# Altium footprint library PcbLib1.PcbLib: 10 footprints
Each footprint in its own frame and in the unit in brackets; x right, y up, seen from the top. Pads: shape width x height; smd on the part's side, far side on the other; paste and mask are expansions set on the pad; w line width, h text height; cw(c..) or ccw(c..) is an arc to the next point about the centre after c.
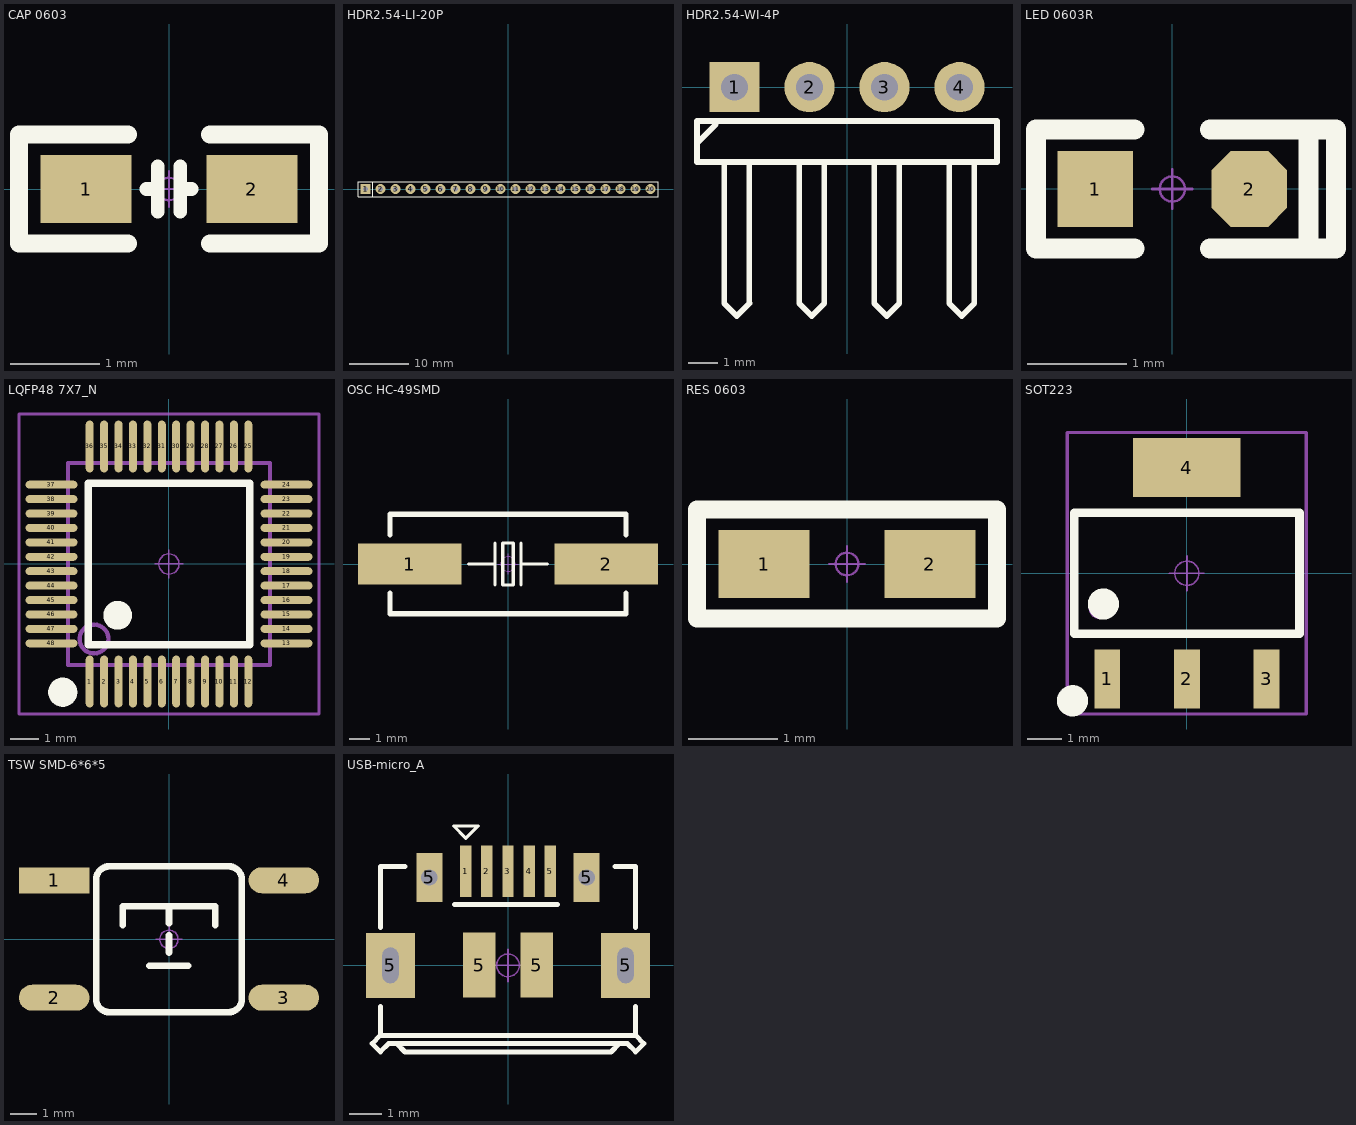
[diagram p0: the footprints below, top view; thin cyan lines are the x and y axes]

## CAP 0603 [mil] "无极性贴片电容"
pads (2):
  rect 40x30 smd: 1(-36.5,0) 2(36.5,0)
Top Overlay:
  lines w6: -10,0 -5,0 ; -5,-10 -5,10 ; 5,-10 5,10 ; 5,0 10,0
  lines w8: -18,-24 -66,-24 -66,24 -18,24 ; 18,-24 66,-24 66,24 18,24
Mechanical 15:
  circle w1: c0,0 r5
  lines w1: -7.87,0 7.87,0 ; 0,-7.87 0,7.87
3D body "C 0603.STEP": height 31.89, standoff -0.39, extent -31.5,-16.14 31.5,16.14

## HDR2.54-LI-20P [mm] "排针，20脚"
pads (20):
  rect 1.7x1.7 hole 0.9: 1(-24.13,0)
  round 1.7 hole 0.9: 2(-21.59,0) 3(-19.05,0) 4(-16.51,0) 5(-13.97,0) 6(-11.43,0) 7(-8.89,0) 8(-6.35,0) 9(-3.81,0) 10(-1.27,0) 11(1.27,0) 12(3.81,0) 13(6.35,0) 14(8.89,0) 15(11.43,0) 16(13.97,0)
  round 1.7 hole 0.762: 17(16.51,0) 18(19.05,0) 19(21.59,0) 20(24.13,0)
Top Overlay:
  lines w0.2: -22.88,-1.25 -22.88,1.25 ; -25.4,-1.27 25.4,-1.27 25.4,1.27 -23.495,1.27 -25.4,1.27 -25.4,-1.27
3D body "HDR2.54-1P.STEP": height 8.5, standoff -3, extent 22.86,-1.27 25.4,1.27
3D body "HDR2.54-1P.STEP": height 8.5, standoff -3, extent 17.78,-1.27 20.32,1.27
3D body "HDR2.54-1P.STEP": height 8.5, standoff -3, extent 20.32,-1.27 22.86,1.27
3D body "HDR2.54-1P.STEP": height 8.5, standoff -3, extent 12.7,-1.27 15.24,1.27
3D body "HDR2.54-1P.STEP": height 8.5, standoff -3, extent 15.24,-1.27 17.78,1.27
3D body "HDR2.54-1P.STEP": height 8.5, standoff -3, extent 10.16,-1.27 12.7,1.27
3D body "HDR2.54-1P.STEP": height 8.5, standoff -3, extent 5.08,-1.27 7.62,1.27
3D body "HDR2.54-1P.STEP": height 8.5, standoff -3, extent 7.62,-1.27 10.16,1.27
3D body "HDR2.54-1P.STEP": height 8.5, standoff -3, extent 0,-1.27 2.54,1.27
3D body "HDR2.54-1P.STEP": height 8.5, standoff -3, extent 2.54,-1.27 5.08,1.27
3D body "HDR2.54-1P.STEP": height 8.5, standoff -3, extent -2.54,-1.27 0,1.27
3D body "HDR2.54-1P.STEP": height 8.5, standoff -3, extent -7.62,-1.27 -5.08,1.27
3D body "HDR2.54-1P.STEP": height 8.5, standoff -3, extent -5.08,-1.27 -2.54,1.27
3D body "HDR2.54-1P.STEP": height 8.5, standoff -3, extent -12.7,-1.27 -10.16,1.27
3D body "HDR2.54-1P.STEP": height 8.5, standoff -3, extent -10.16,-1.27 -7.62,1.27
3D body "HDR2.54-1P.STEP": height 8.5, standoff -3, extent -15.24,-1.27 -12.7,1.27
3D body "HDR2.54-1P.STEP": height 8.5, standoff -3, extent -20.32,-1.27 -17.78,1.27
3D body "HDR2.54-1P.STEP": height 8.5, standoff -3, extent -17.78,-1.27 -15.24,1.27
3D body "HDR2.54-1P.STEP": height 8.5, standoff -3, extent -25.4,-1.27 -22.86,1.27
3D body "HDR2.54-1P.STEP": height 8.5, standoff -3, extent -22.86,-1.27 -20.32,1.27

## HDR2.54-WI-4P [mm] "弯脚排针，4脚"
pads (4):
  rect 1.7x1.7 hole 0.9: 1(-3.81,0)
  round 1.7 hole 0.9: 2(-1.27,0) 3(1.27,0) 4(3.81,0)
Top Overlay:
  lines w0.2: -5.08,-1.905 -4.445,-1.27 ; -4.158,-2.54 -4.158,-7.332 -3.735,-7.755 -3.311,-7.332 -3.302,-7.323 ; -3.311,-7.323 -3.311,-2.54 ; -1.618,-2.54 -1.618,-7.332 -1.195,-7.755 -0.771,-7.332 ; -0.771,-7.323 -0.771,-2.54 ; 0.922,-2.54 0.922,-7.332 1.345,-7.755 1.769,-7.332 ; 1.769,-7.323 1.769,-2.54 ; 3.462,-2.54 3.462,-7.332 3.885,-7.755 4.309,-7.332 ; 4.309,-7.323 4.309,-2.54 ; -5.08,-2.54 -5.08,-1.143 -3.302,-1.143 5.08,-1.143 5.08,-2.54 -5.08,-2.54
3D body "HDR2.54-1P_H.STEP": height 4.85, standoff -3, extent -5.08,-7.77 -2.54,1.27
3D body "HDR2.54-1P_H.STEP": height 4.85, standoff -3, extent -2.54,-7.77 0,1.27
3D body "HDR2.54-1P_H.STEP": height 4.85, standoff -3, extent 0,-7.77 2.54,1.27
3D body "HDR2.54-1P_H.STEP": height 4.85, standoff -3, extent 2.54,-7.77 5.08,1.27

## LED 0603R [mil] "红色0603LED"
pads (2):
  rect 30x30 smd: 1(-30.59,0)
  oct 30x30 smd: 2(30.59,0)
Top Overlay:
  lines w8: -15.01,-23.63 -54.14,-23.63 -54.14,23.62 -15.01,23.62 ; 14.99,-23.63 65,-23.63 65,23.62 14.99,23.62 ; 54.13,-23.63 54.13,23.62
Mechanical 15:
  circle w1: c0,0 r5
  lines w1: -7.88,0 7.87,0 ; 0,-7.88 0,7.87
3D body "LED 0603玻璃罩.STEP": height 23.82, standoff 8.07, extent -23.63,-15.75 23.62,15.74
3D body "LED 0603-R.STEP": height 18.36, standoff -0.16, extent -31.49,-15.78 31.5,15.79

## LQFP48 7X7_N [mm] "48脚，体宽7x7mm，脚距0.5mm"
height 1.6
pads (48):
  oval 0.279x1.8 smd: 1(-2.75,-4.075) 2(-2.25,-4.075) 3(-1.75,-4.075) 4(-1.25,-4.075) 5(-0.75,-4.075) 6(-0.25,-4.075) 7(0.25,-4.075) 8(0.75,-4.075) 9(1.25,-4.075) 10(1.75,-4.075) 11(2.25,-4.075) 12(2.75,-4.075) 25(2.75,4.075) 26(2.25,4.075) 27(1.75,4.075) 28(1.25,4.075) 29(0.75,4.075) 30(0.25,4.075) 31(-0.25,4.075) 32(-0.75,4.075) 33(-1.25,4.075) 34(-1.75,4.075) 35(-2.25,4.075) 36(-2.75,4.075)
  oval 1.8x0.279 smd: 13(4.075,-2.75) 14(4.075,-2.25) 15(4.075,-1.75) 16(4.075,-1.25) 17(4.075,-0.75) 18(4.075,-0.25) 19(4.075,0.25) 20(4.075,0.75) 21(4.075,1.25) 22(4.075,1.75) 23(4.075,2.25) 24(4.075,2.75) 37(-4.075,2.75) 38(-4.075,2.25) 39(-4.075,1.75) 40(-4.075,1.25) 41(-4.075,0.75) 42(-4.075,0.25) 43(-4.075,-0.25) 44(-4.075,-0.75) 45(-4.075,-1.25) 46(-4.075,-1.75) 47(-4.075,-2.25) 48(-4.075,-2.75)
Top Overlay:
  circle w0.508: c-3.683,-4.445 r0.25
  circle w0.5: c-1.778,-1.778 r0.25
  lines w0.254: -2.794,-2.794 -2.794,2.794 2.794,2.794 2.794,-2.794 -2.794,-2.794
Mechanical 13:
  circle w0.15: c-2.6,-2.6 r0.5
  lines w0.15: -3.5,-3.5 3.5,-3.5 3.5,3.5 -3.5,3.5 -3.5,-3.5
Mechanical 15:
  circle w0.05: c0,0 r0.35
  lines w0.05: -0.5,0 0.5,0 ; 0,-0.5 0,0.5
  lines w0.1: -5.2,-5.2 -5.2,5.2 5.2,5.2 5.2,-5.2 -5.2,-5.2
3D body "LQFP48-7x7.STEP": height 1.45, standoff 0, extent -4.503,-4.503 4.503,4.503

## OSC HC-49SMD [mm]
pads (2):
  rect 5x2 smd: 1(-4.75,0) 2(4.75,0)
Top Overlay:
  lines w0.152: -1.905,0 -0.635,0 ; -0.635,-1.016 -0.635,1.016 ; 0.635,-1.016 0.635,1.016 ; 0.635,0 1.905,0 ; -0.254,-1.016 -0.254,1.016 0.254,1.016 0.254,-1.016 -0.254,-1.016
  lines w0.254: -5.7,-1.397 -5.7,-2.4 5.7,-2.4 5.7,-1.397 ; -5.7,1.397 -5.7,2.4 5.7,2.4 5.7,1.397
Mechanical 15:
  circle w0.05: c0,0 r0.35
  lines w0.05: -0.5,0 0.5,0 ; 0,-0.5 0,0.5
3D body "OSC HC-49SMD.STEP": height 4.63, standoff 0.03, extent -6.5,-2.325 6.5,2.325

## RES 0603 [mil] "1/10W贴片电阻"
pads (2):
  rect 40x30 smd: 1(-36.5,0) 2(36.5,0)
Top Overlay:
  lines w8: -66,-24 -66,24 -18,24 66,24 66,-24 -18,-24 -66,-24
Mechanical 15:
  circle w1: c0,0 r5
  lines w1: -7.87,0 7.87,0 ; 0,-7.87 0,7.87
3D body "R 0603.STEP": height 15.79, standoff -0.13, extent -31.49,-15.74 31.5,15.75

## SOT223 [mm] "6.4x7x1.6mm(长宽高)"
height 1.7
pads (4):
  rect 0.75x1.7 smd: 1(-2.3,-3.048) 2(0,-3.048) 3(2.3,-3.048)
  rect 3.1x1.7 smd: 4(0,3.048)
Top Overlay:
  circle w0.5: c-2.413,-0.889 r0.2
  circle w0.5: c-3.302,-3.683 r0.2
  lines w0.25: -3.25,-1.75 -3.25,1.75 3.25,1.75 3.25,-1.75 -3.25,-1.75
Mechanical 13:
  circle w0.1: c-2.536,-1.016 r0.25
  lines w0.1: -3.25,-1.75 -3.25,1.75 3.25,1.75 3.25,-1.75 -3.25,-1.75
Mechanical 15:
  circle w0.05: c0,0 r0.35
  lines w0.05: -0.5,0 0.5,0 ; 0,-0.5 0,0.5
  lines w0.1: -3.45,-4.064 -3.45,4.064 3.45,4.064 3.45,-4.064 -3.45,-4.064
3D body "SOT223.STEP": height 1.65, standoff -0.02, extent -3.25,-3.508 3.25,3.508

## TSW SMD-6*6*5 [mm] "6*6*5mm"
pads (4):
  rect 2.7x1 smd: 1(-4.4,2.261)
  oval 2.7x1 smd: 2(-4.4,-2.239) 3(4.4,-2.239) 4(4.4,2.261)
Top Overlay:
  lines w0.254: -1.778,0.533 -1.778,1.27 1.778,1.27 1.778,0.533 ; -0.762,-1.016 0.737,-1.016 ; 0,-0.508 0,0.152 ; 0,0.61 0,1.27 ; -2.794,-2.286 ccw(c-2.286,-2.286) -2.286,-2.794 2.286,-2.794 ccw(c2.286,-2.286) 2.794,-2.286 2.794,2.286 ccw(c2.286,2.286) 2.286,2.794 -2.286,2.794 ccw(c-2.286,2.286) -2.794,2.286 -2.794,-2.286
Mechanical 15:
  circle w0.05: c0,0 r0.35
  lines w0.05: -0.5,0 0.5,0 ; 0,-0.5 0,0.5
3D body "TSW SMD-6x6x5.STEP": height 4.95, standoff -0.03, extent -4.5,-3 4.5,3

## USB-micro_A [mm] "micro型USB ，5.7*7.8*2.5mm"
pads (11):
  rect 0.35x1.6 smd: 1(-1.3,2.9) 2(-0.65,2.9) 3(0,2.9) 4(0.65,2.9) 5(1.3,2.9)
  rect 1.5x2 hole 0.5 slot 1.1 at 90 deg: 5(-3.625,0) 5(3.625,0)
  rect 0.8x1.5 hole 0.5: 5(-2.425,2.71) 5(2.425,2.71)
  rect 1x2 smd: 5(-0.889,0.01) 5(0.889,0.01)
Top Overlay:
  lines w0.1: -1.681,4.297 -0.919,4.297 -1.3,3.916 -1.681,4.297
  lines w0.152: -3.937,-1.27 -3.937,-2.159 ; -3.937,1.168 -3.937,3.048 -3.175,3.048 ; -1.65,1.875 1.525,1.875 ; 3.302,3.048 3.937,3.048 3.937,1.168 ; 3.937,-1.27 3.937,-2.159 ; -3.937,-2.159 -4.191,-2.413 -3.937,-2.667 -3.683,-2.413 -3.429,-2.413 ; -3.937,-2.159 3.937,-2.159 ; -3.429,-2.413 -3.175,-2.673 3.175,-2.673 3.429,-2.413 ; -3.429,-2.413 3.429,-2.413 ; 3.429,-2.413 3.683,-2.413 3.937,-2.667 4.191,-2.413 3.937,-2.159
Mechanical 15:
  circle w0.05: c0,0 r0.35
  lines w0.05: -0.5,0 0.5,0 ; 0,-0.5 0,0.5
3D body "USB micro_A.STEP": height 2.8, standoff -0.95, extent -4.001,-2.71 4.001,2.89